# Altium integrated library TI Video Colour Decoder Circuit.IntLib: 24 symbols (part 2 of 3)
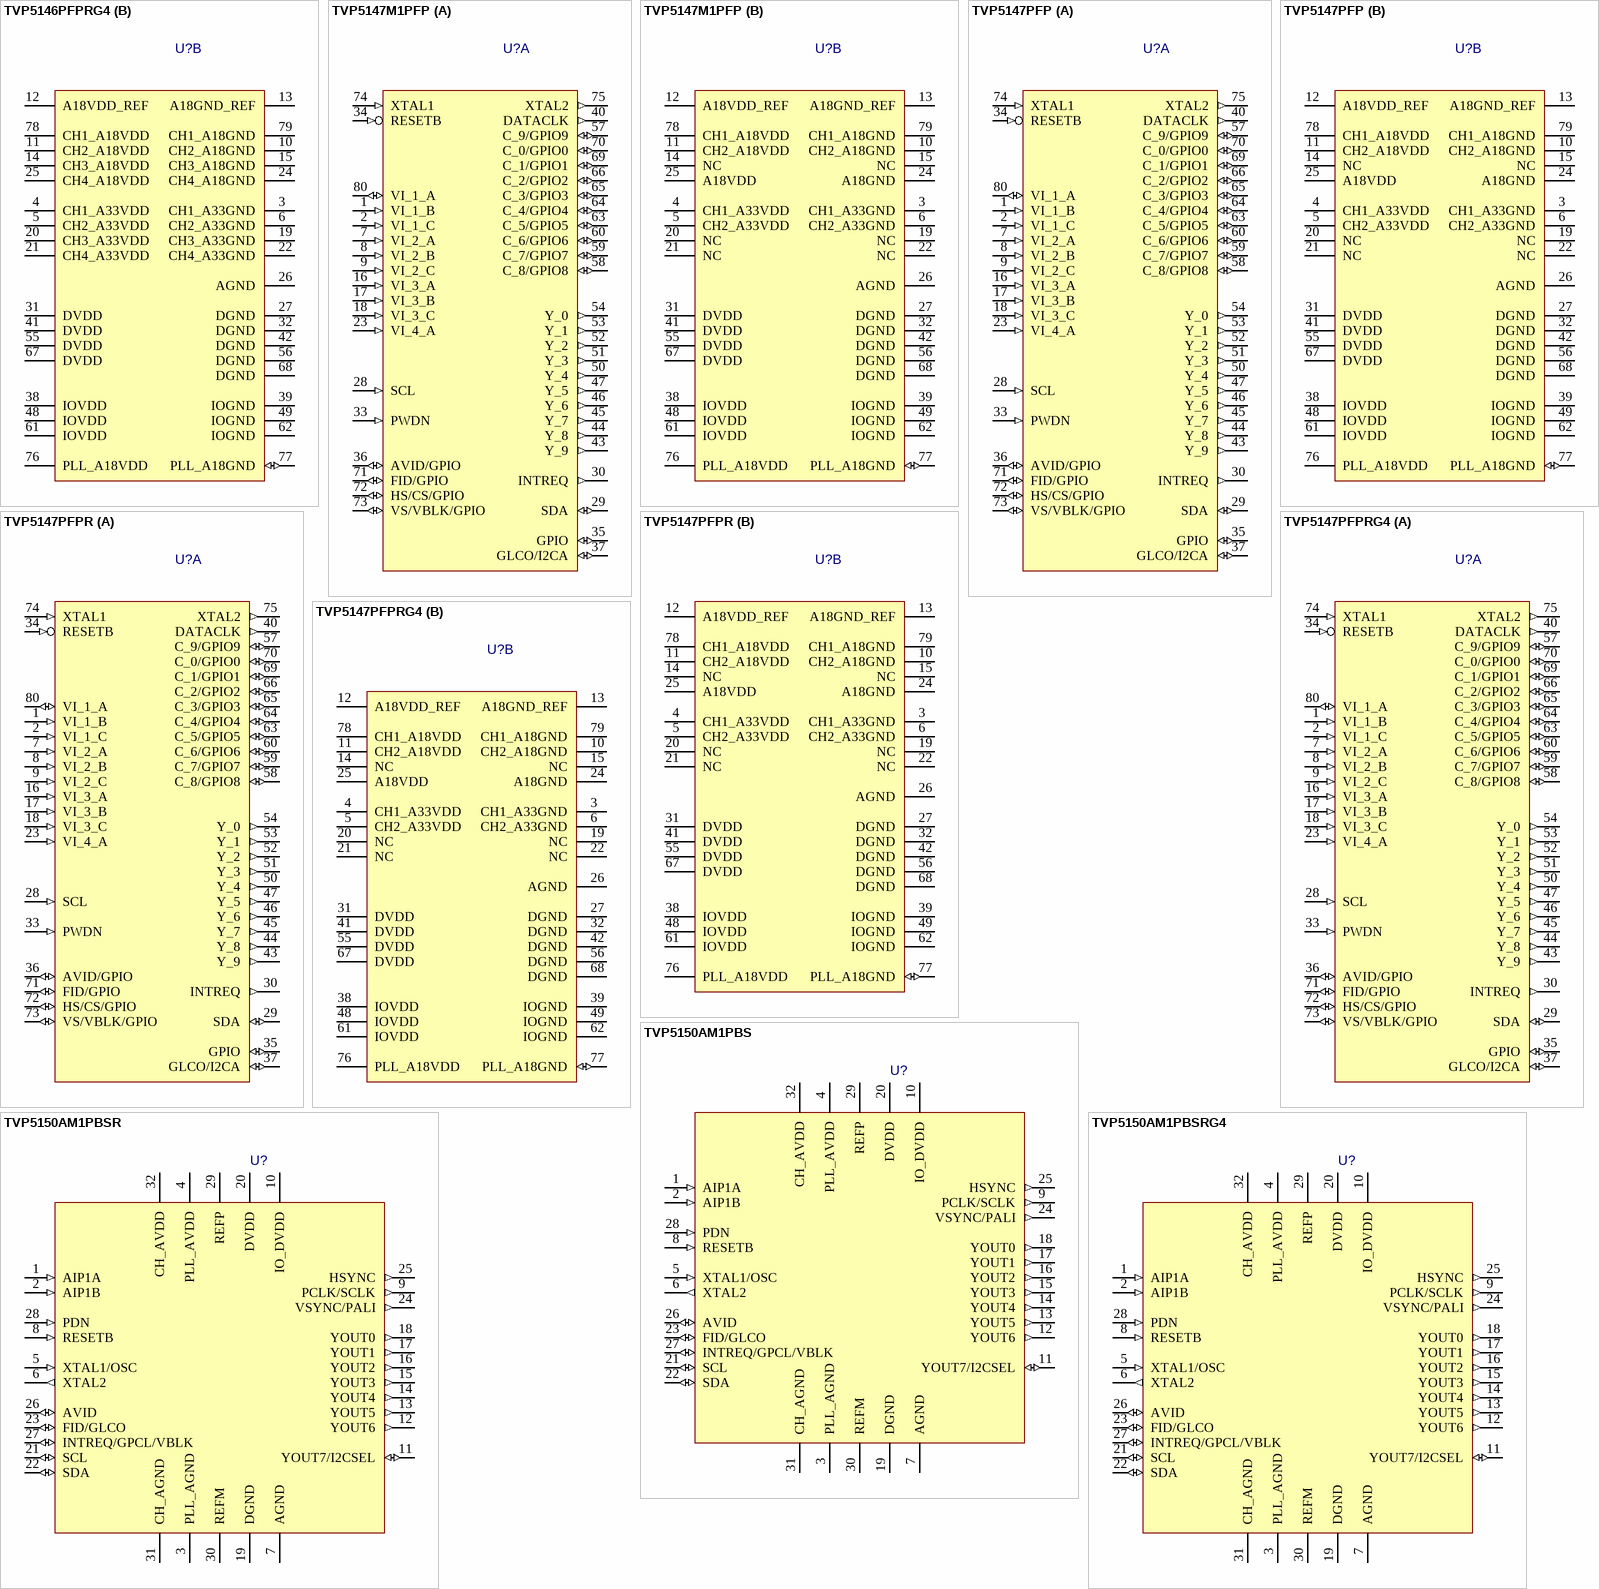
[diagram p4: symbols TVP5146PFPRG4 to TVP5150AM1PBSRG4]

## TVP5147PFPRG4
designator U?
NTSC/PAL/SECAM 2x10-Bit Digital Video Decoder with Macrovision Detection, YPbPr Inputs, 5-Line Comb Filter, 80-Pin HTQFP; Published: 6-Oct-2005; LatestRevisionDate: 13-Apr-2006; LatestRevisionNote: IPC-7351 Footprint Added.; DatasheetVersion: Jan-2005; PackageVersion: Aug-2003; PackageReference: PFP80; Publisher: Altium Limited; PackageDescription: 80-Pin Plastic Quad Flat Pack PowerPAD; ComponentLink1Description: Manufacturer Link; ComponentLink1URL: http://focus.ti.com/docs/prod/folders/print/tvp5147.html; ComponentLink2Description: Datasheet; ComponentLink2URL: http://focus.ti.com/lit/ds/symlink/tvp5147.pdf
footprint PFP80_N (Thin QFP, 80-Leads, Body 12x12mm, Pitch 0.5mm, IPC Medium Density)
footprint PFP80_L (Thin QFP, 80-Leads, Body 12x12mm, Pitch 0.5mm, IPC High Density)
footprint PFP80_M (Thin QFP, 80-Leads, Body 12x12mm, Pitch 0.5mm, IPC Low Density)
part A pins: 1 VI_1_B (in) "Analog video input for CVBS/Pb/C", 2 VI_1_C (in) "Analog video input for CVBS/Pb/C", 7 VI_2_A (in) "Analog video input for CVBS/Y", 8 VI_2_B (in) "Analog video input for CVBS/Y", 9 VI_2_C (in) "Analog video input for CVBS/Y", 16 VI_3_A (in) "Analog video input for CVBS/Pr/C", 17 VI_3_B (in) "Analog video input for CVBS/Pr/C", 18 VI_3_C (in) "Analog video input for CVBS/Pr/C", 23 VI_4_A (in) "Analog video input for CVBS/Y", 28 SCL (in) "I2C clock input.", 29 SDA (io) "I2C data bus", 30 INTREQ (out) "Interrupt request.", 33 PWDN (in) "Power-down input.", 34 RESETB (in) "Reset input, active low.", 35 GPIO (io) "Programmable general-purpose I/O.", 36 AVID/GPIO (io) "Active video indicator output. Programmable general-purpose I/O.", 37 GLCO/I2CA (io) "Genlock control output (GLCO). During reset, used to program I2C address LSB.", 40 DATACLK (out) "Line-locked data output clock", 43 Y_9 (out) "Digital video output of Y/YCbCr (MSB).", 44 Y_8 (out) "Digital video output of Y/YCbCr.", 45 Y_7 (out) "Digital video output of Y/YCbCr.", 46 Y_6 (out) "Digital video output of Y/YCbCr.", 47 Y_5 (out) "Digital video output of Y/YCbCr.", 50 Y_4 (out) "Digital video output of Y/YCbCr.", 51 Y_3 (out) "Digital video output of Y/YCbCr.", 52 Y_2 (out) "Digital video output of Y/YCbCr.", 53 Y_1 (out) "Digital video output of Y/YCbCr.", 54 Y_0 (out) "Digital video output of Y/YCbCr (LSB).", 57 C_9/GPIO9 (io) "Digital video output of CbCr (MSB). Programmable general-purpose I/O", 58 C_8/GPIO8 (io) "Digital video output of CbCr. Programmable general-purpose I/O", 59 C_7/GPIO7 (io) "Digital video output of CbCr. Programmable general-purpose I/O", 60 C_6/GPIO6 (io) "Digital video output of CbCr. Programmable general-purpose I/O", 63 C_5/GPIO5 (io) "Digital video output of CbCr. Programmable general-purpose I/O", 64 C_4/GPIO4 (io) "Digital video output of CbCr. Programmable general-purpose I/O", 65 C_3/GPIO3 (io) "Digital video output of CbCr. Programmable general-purpose I/O", 66 C_2/GPIO2 (io) "Digital video output of CbCr. Programmable general-purpose I/O", 69 C_1/GPIO1 (io) "Digital video output of CbCr. Programmable general-purpose I/O", 70 C_0/GPIO0 (io) "Digital video output of CbCr (LSB). Programmable general-purpose I/O", 71 FID/GPIO (io) "Odd/even field indicator output. Programmable general-purpose I/O.", 72 HS/CS/GPIO (io) "Horizontal sync output or digital composite sync output. Programmable general-purpose I/O.", 73 VS/VBLK/GPIO (io) "Vertical sync output (for modes with dedicated VSYNC) or VBLK output. Programmable general-purpose I/O.", 74 XTAL1 (in) "External clock reference input.", 75 XTAL2 (out) "External clock reference output.", 80 VI_1_A (io) "Analog video input for CVBS/Pb/C or analog video input"
part B pins: 3 CH1_A33GND (power) "Analog 3.3-V return", 4 CH1_A33VDD (power) "Analog power. Connect to 3.3 V.", 5 CH2_A33VDD (power) "Analog power. Connect to 3.3 V.", 6 CH2_A33GND (power) "Analog 3.3-V return", 10 CH2_A18GND (power) "Analog 1.8-V return", 11 CH2_A18VDD (power) "Analog power. Connect to 1.8 V.", 12 A18VDD_REF (power) "Analog power for reference 1.8 V.", 13 A18GND_REF (power) "Analog 1.8-V return.", 14 NC "Not connected", 15 NC "Not connected", 19 NC "Not connected", 20 NC "Not connected", 21 NC "Not connected", 22 NC "Not connected", 24 A18GND (power) "Analog 1.8-V return", 25 A18VDD (power) "Analog power. Connect to 1.8 V.", 26 AGND (power) "Analog ground. Connect to analog ground.", 27 DGND (power) "Digital return", 31 DVDD (power) "Digital power. Connect to 1.8 V.", 32 DGND (power) "Digital return", 38 IOVDD (power) "Digital power. Connect to 3.3 V or less for reduced noise.", 39 IOGND (power) "Digital power return", 41 DVDD (power) "Digital power. Connect to 1.8 V.", 42 DGND (power) "Digital return", 48 IOVDD (power) "Digital power. Connect to 3.3 V or less for reduced noise.", 49 IOGND (power) "Digital power return", 55 DVDD (power) "Digital power. Connect to 1.8 V.", 56 DGND (power) "Digital return", 61 IOVDD (power) "Digital power. Connect to 3.3 V or less for reduced noise.", 62 IOGND (power) "Digital power return", 67 DVDD (power) "Digital power. Connect to 1.8 V.", 68 DGND (power) "Digital return", 76 PLL_A18VDD (power) "Analog power. Connect to 1.8 V.", 77 PLL_A18GND (io) "Analog power return", 78 CH1_A18VDD (power) "Analog power. Connect to 1.8 V.", 79 CH1_A18GND (power) "Analog 1.8-V return"

## TVP5150AM1PBS
designator U?
Ultralow Power NTSC/PAL/SECAM 9-Bit Video Decoder with Robust Sync Detector, 32-Pin TQFP; Published: 6-Oct-2005; LatestRevisionDate: 13-Apr-2006; LatestRevisionNote: IPC-7351 Footprint Added.; DatasheetVersion: May-2004; PackageVersion: Nov-1995; PackageReference: PBS32; Publisher: Altium Limited; PackageDescription: 32-Pin Thin Plastic Quad Flat Pack 0.5 mm Pitch; Code_JEDEC: MS-026-AAA; ComponentLink1Description: Manufacturer Link; ComponentLink1URL: http://focus.ti.com/docs/prod/folders/print/tvp5150am1.html; ComponentLink2Description: Datasheet; ComponentLink2URL: http://focus.ti.com/lit/ds/symlink/tvp5150am1.pdf
footprint PBS32_N (Thin QFP, 32-Leads, Body 5x5mm, Pitch 0.5mm, IPC Medium Density)
footprint PBS32_L (Thin QFP, 32-Leads, Body 5x5mm, Pitch 0.5mm, IPC High Density)
footprint PBS32_M (Thin QFP, 32-Leads, Body 5x5mm, Pitch 0.5mm, IPC Low Density)
pins: 1 AIP1A (in) "Analog input", 2 AIP1B (in) "Analog input", 3 PLL_AGND (power) "PLL ground. Connect to analog ground", 4 PLL_AVDD (power) "PLL supply. Connect to 1.8-V analog supply", 5 XTAL1/OSC (in) "External clock reference. Connect to a TTL-compatible oscillator or to one terminal of a crystal oscillator", 6 XTAL2 (out) "Connect to other terminal of crystal oscillator or not connect at all.", 7 AGND "Substrate", 8 RESETB (in) "Active-low reset.", 9 PCLK/SCLK (out) "System clock at either 1x or 2x the frequency of the pixel clock.", 10 IO_DVDD (power) "Digital supply. Connect to 3.3 V", 11 YOUT7/I2CSEL (io) "(I2CSEL) Determines address for I2C.(YOUT7) MSB of Output decoded ITU-R BT656 output/YUV 422 output.", 12 YOUT6 (out) "Output Decoded ITU-R BT.656 Output/YCbCr 4:2:2 Output with Discrete Sync.", 13 YOUT5 (out) "Output Decoded ITU-R BT.656 Output/YCbCr 4:2:2 Output with Discrete Sync.", 14 YOUT4 (out) "Output Decoded ITU-R BT.656 Output/YCbCr 4:2:2 Output with Discrete Sync.", 15 YOUT3 (out) "Output Decoded ITU-R BT.656 Output/YCbCr 4:2:2 Output with Discrete Sync.", 16 YOUT2 (out) "Output Decoded ITU-R BT.656 Output/YCbCr 4:2:2 Output with Discrete Sync.", 17 YOUT1 (out) "Output Decoded ITU-R BT.656 Output/YCbCr 4:2:2 Output with Discrete Sync.", 18 YOUT0 (out) "Output Decoded ITU-R BT.656 Output/YCbCr 4:2:2 Output with Discrete Sync.", 19 DGND (power) "Digital ground", 20 DVDD (power) "Digital supply. Connect to 1.8 V", 21 SCL (io) "I2C serial clock", 22 SDA (io) "I2C serial data", 23 FID/GLCO (io) "(FID) Odd/even field indicator or vertical lock indicator. (GLCO) Serial output carries color PLL information.", 24 VSYNC/PALI (out) "(VSYNC) vertical synchronization. (PALI) PAL line indicator or horizontal lock indicator.", 25 HSYNC (out) "Horizontal synchronization", 26 AVID (io) "Active video indicator", 27 INTREQ/GPCL/VBLK (io) "(INTREQ) interrupt request. (GPCL) General-purpose control logic. (VBLK) Vertical blank output.", 28 PDN (in) "Power-down pin", 29 REFP (power) "A/D reference supply.", 30 REFM (power) "A/D reference ground. Connect to analog ground through 1-µF capacitor.", 31 CH_AGND (power) "Analog ground", 32 CH_AVDD (power) "Analog supply. Connect to 1.8-V analog supply"

## TVP5150AM1PBSR
designator U?
Ultralow Power NTSC/PAL/SECAM 9-Bit Video Decoder with Robust Sync Detector, 32-Pin TQFP; Published: 6-Oct-2005; LatestRevisionDate: 13-Apr-2006; LatestRevisionNote: IPC-7351 Footprint Added.; DatasheetVersion: May-2004; PackageVersion: Nov-1995; PackageReference: PBS32; Publisher: Altium Limited; PackageDescription: 32-Pin Thin Plastic Quad Flat Pack 0.5 mm Pitch; Code_JEDEC: MS-026-AAA; ComponentLink1Description: Manufacturer Link; ComponentLink1URL: http://focus.ti.com/docs/prod/folders/print/tvp5150am1.html; ComponentLink2Description: Datasheet; ComponentLink2URL: http://focus.ti.com/lit/ds/symlink/tvp5150am1.pdf
footprint PBS32_N (Thin QFP, 32-Leads, Body 5x5mm, Pitch 0.5mm, IPC Medium Density)
footprint PBS32_L (Thin QFP, 32-Leads, Body 5x5mm, Pitch 0.5mm, IPC High Density)
footprint PBS32_M (Thin QFP, 32-Leads, Body 5x5mm, Pitch 0.5mm, IPC Low Density)
pins: 1 AIP1A (in) "Analog input", 2 AIP1B (in) "Analog input", 3 PLL_AGND (power) "PLL ground. Connect to analog ground", 4 PLL_AVDD (power) "PLL supply. Connect to 1.8-V analog supply", 5 XTAL1/OSC (in) "External clock reference. Connect to a TTL-compatible oscillator or to one terminal of a crystal oscillator", 6 XTAL2 (out) "Connect to other terminal of crystal oscillator or not connect at all.", 7 AGND "Substrate", 8 RESETB (in) "Active-low reset.", 9 PCLK/SCLK (out) "System clock at either 1x or 2x the frequency of the pixel clock.", 10 IO_DVDD (power) "Digital supply. Connect to 3.3 V", 11 YOUT7/I2CSEL (io) "(I2CSEL) Determines address for I2C.(YOUT7) MSB of Output decoded ITU-R BT656 output/YUV 422 output.", 12 YOUT6 (out) "Output Decoded ITU-R BT.656 Output/YCbCr 4:2:2 Output with Discrete Sync.", 13 YOUT5 (out) "Output Decoded ITU-R BT.656 Output/YCbCr 4:2:2 Output with Discrete Sync.", 14 YOUT4 (out) "Output Decoded ITU-R BT.656 Output/YCbCr 4:2:2 Output with Discrete Sync.", 15 YOUT3 (out) "Output Decoded ITU-R BT.656 Output/YCbCr 4:2:2 Output with Discrete Sync.", 16 YOUT2 (out) "Output Decoded ITU-R BT.656 Output/YCbCr 4:2:2 Output with Discrete Sync.", 17 YOUT1 (out) "Output Decoded ITU-R BT.656 Output/YCbCr 4:2:2 Output with Discrete Sync.", 18 YOUT0 (out) "Output Decoded ITU-R BT.656 Output/YCbCr 4:2:2 Output with Discrete Sync.", 19 DGND (power) "Digital ground", 20 DVDD (power) "Digital supply. Connect to 1.8 V", 21 SCL (io) "I2C serial clock", 22 SDA (io) "I2C serial data", 23 FID/GLCO (io) "(FID) Odd/even field indicator or vertical lock indicator. (GLCO) Serial output carries color PLL information.", 24 VSYNC/PALI (out) "(VSYNC) vertical synchronization. (PALI) PAL line indicator or horizontal lock indicator.", 25 HSYNC (out) "Horizontal synchronization", 26 AVID (io) "Active video indicator", 27 INTREQ/GPCL/VBLK (io) "(INTREQ) interrupt request. (GPCL) General-purpose control logic. (VBLK) Vertical blank output.", 28 PDN (in) "Power-down pin", 29 REFP (power) "A/D reference supply.", 30 REFM (power) "A/D reference ground. Connect to analog ground through 1-µF capacitor.", 31 CH_AGND (power) "Analog ground", 32 CH_AVDD (power) "Analog supply. Connect to 1.8-V analog supply"

## TVP5150AM1PBSRG4
designator U?
Ultralow Power NTSC/PAL/SECAM 9-Bit Video Decoder with Robust Sync Detector, 32-Pin TQFP; Published: 6-Oct-2005; LatestRevisionDate: 13-Apr-2006; LatestRevisionNote: IPC-7351 Footprint Added.; DatasheetVersion: May-2004; PackageVersion: Nov-1995; PackageReference: PBS32; Publisher: Altium Limited; PackageDescription: 32-Pin Thin Plastic Quad Flat Pack 0.5 mm Pitch; Code_JEDEC: MS-026-AAA; ComponentLink1Description: Manufacturer Link; ComponentLink1URL: http://focus.ti.com/docs/prod/folders/print/tvp5150am1.html; ComponentLink2Description: Datasheet; ComponentLink2URL: http://focus.ti.com/lit/ds/symlink/tvp5150am1.pdf
footprint PBS32_N (Thin QFP, 32-Leads, Body 5x5mm, Pitch 0.5mm, IPC Medium Density)
footprint PBS32_L (Thin QFP, 32-Leads, Body 5x5mm, Pitch 0.5mm, IPC High Density)
footprint PBS32_M (Thin QFP, 32-Leads, Body 5x5mm, Pitch 0.5mm, IPC Low Density)
pins: 1 AIP1A (in) "Analog input", 2 AIP1B (in) "Analog input", 3 PLL_AGND (power) "PLL ground. Connect to analog ground", 4 PLL_AVDD (power) "PLL supply. Connect to 1.8-V analog supply", 5 XTAL1/OSC (in) "External clock reference. Connect to a TTL-compatible oscillator or to one terminal of a crystal oscillator", 6 XTAL2 (out) "Connect to other terminal of crystal oscillator or not connect at all.", 7 AGND "Substrate", 8 RESETB (in) "Active-low reset.", 9 PCLK/SCLK (out) "System clock at either 1x or 2x the frequency of the pixel clock.", 10 IO_DVDD (power) "Digital supply. Connect to 3.3 V", 11 YOUT7/I2CSEL (io) "(I2CSEL) Determines address for I2C.(YOUT7) MSB of Output decoded ITU-R BT656 output/YUV 422 output.", 12 YOUT6 (out) "Output Decoded ITU-R BT.656 Output/YCbCr 4:2:2 Output with Discrete Sync.", 13 YOUT5 (out) "Output Decoded ITU-R BT.656 Output/YCbCr 4:2:2 Output with Discrete Sync.", 14 YOUT4 (out) "Output Decoded ITU-R BT.656 Output/YCbCr 4:2:2 Output with Discrete Sync.", 15 YOUT3 (out) "Output Decoded ITU-R BT.656 Output/YCbCr 4:2:2 Output with Discrete Sync.", 16 YOUT2 (out) "Output Decoded ITU-R BT.656 Output/YCbCr 4:2:2 Output with Discrete Sync.", 17 YOUT1 (out) "Output Decoded ITU-R BT.656 Output/YCbCr 4:2:2 Output with Discrete Sync.", 18 YOUT0 (out) "Output Decoded ITU-R BT.656 Output/YCbCr 4:2:2 Output with Discrete Sync.", 19 DGND (power) "Digital ground", 20 DVDD (power) "Digital supply. Connect to 1.8 V", 21 SCL (io) "I2C serial clock", 22 SDA (io) "I2C serial data", 23 FID/GLCO (io) "(FID) Odd/even field indicator or vertical lock indicator. (GLCO) Serial output carries color PLL information.", 24 VSYNC/PALI (out) "(VSYNC) vertical synchronization. (PALI) PAL line indicator or horizontal lock indicator.", 25 HSYNC (out) "Horizontal synchronization", 26 AVID (io) "Active video indicator", 27 INTREQ/GPCL/VBLK (io) "(INTREQ) interrupt request. (GPCL) General-purpose control logic. (VBLK) Vertical blank output.", 28 PDN (in) "Power-down pin", 29 REFP (power) "A/D reference supply.", 30 REFM (power) "A/D reference ground. Connect to analog ground through 1-µF capacitor.", 31 CH_AGND (power) "Analog ground", 32 CH_AVDD (power) "Analog supply. Connect to 1.8-V analog supply"

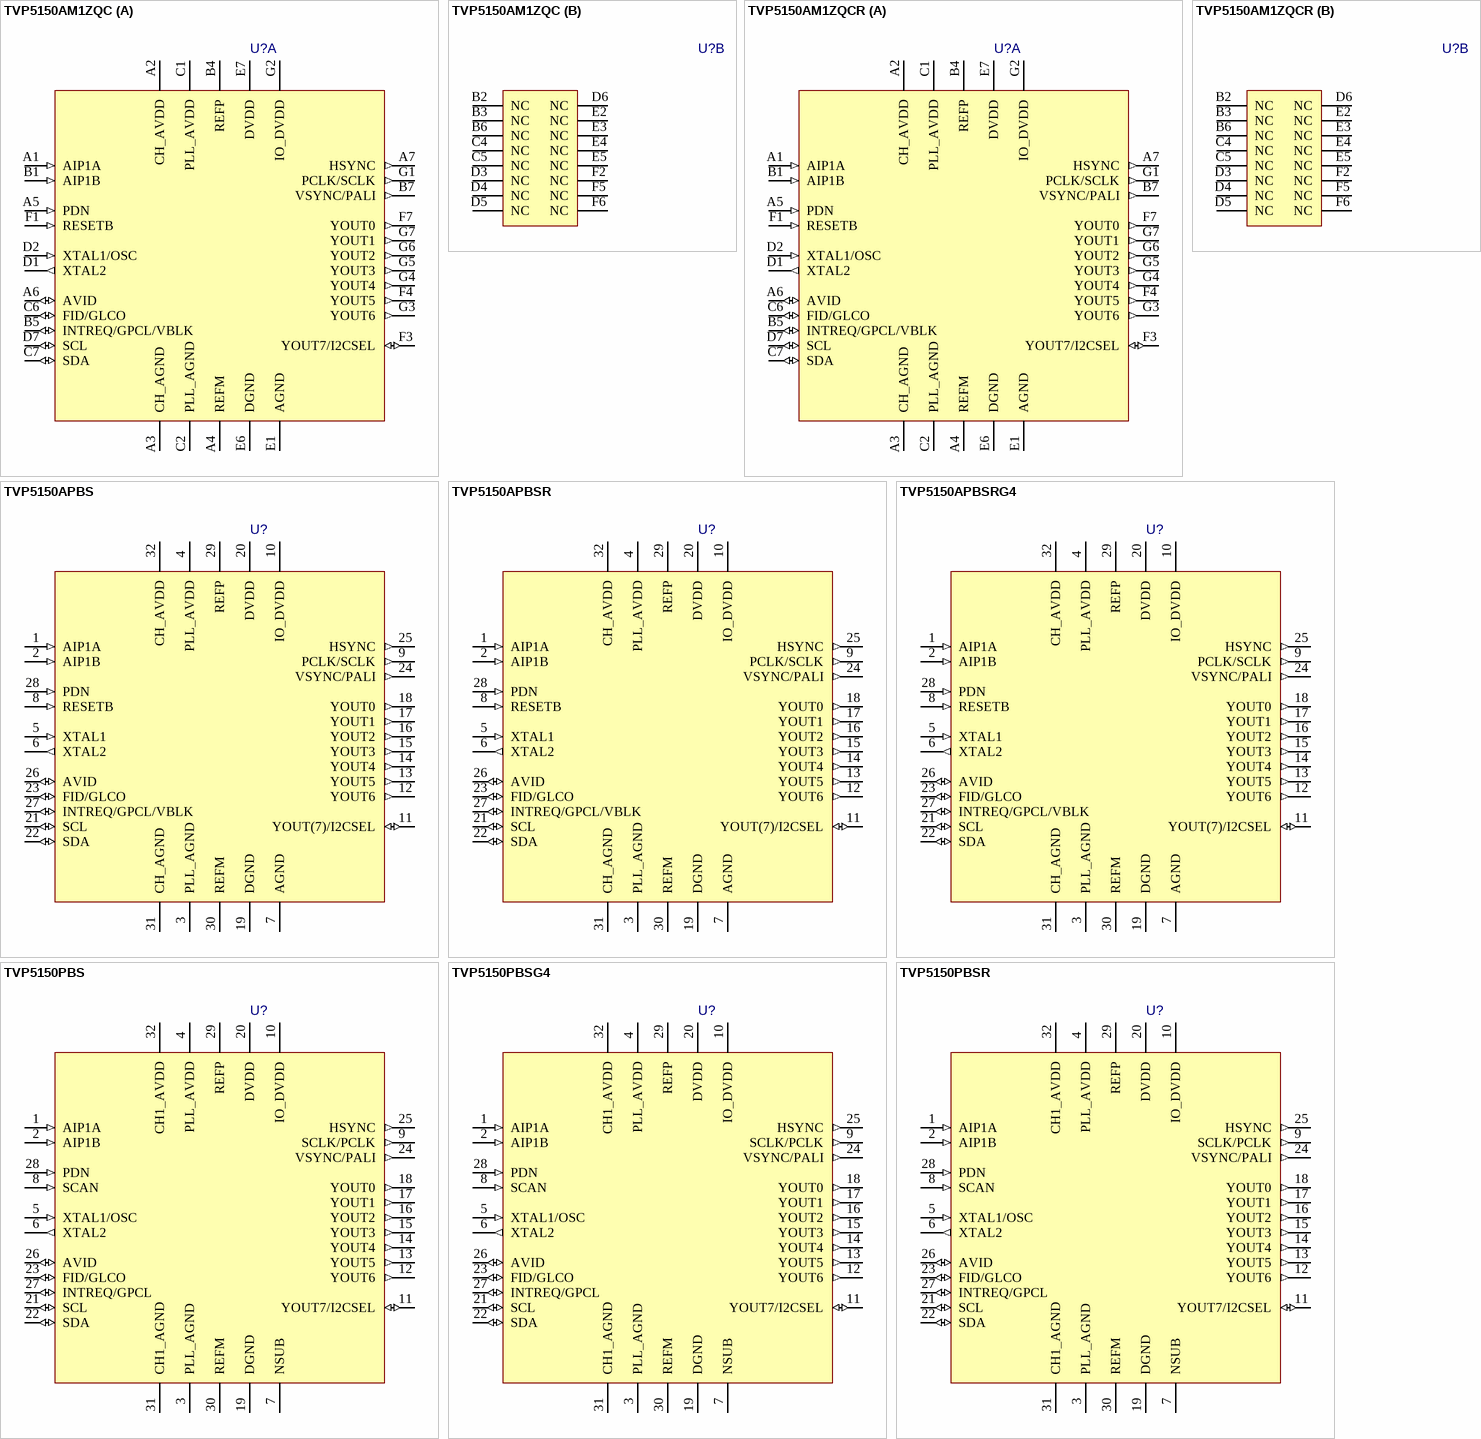
[diagram p2: symbols TVP5150AM1ZQC to TVP5150PBSR]

## TVP5150AM1ZQC
designator U?
Ultralow Power NTSC/PAL/SECAM 9-Bit Video Decoder w/Robust Sync Detector, 48-Pin MicroStar Junior BGA; Published: 6-Oct-2005; LatestRevisionDate: 13-Apr-2006; LatestRevisionNote: IPC-7351 Footprint Added.; DatasheetVersion: May-2004; PackageVersion: Oct-2002; PackageReference: ZQC48; Publisher: Altium Limited; PackageDescription: 48-Ball Plastic Ball Grid Array 0.5 mm Pitch; Code_JEDEC: MO-225; ComponentLink1Description: Manufacturer Link; ComponentLink1URL: http://focus.ti.com/docs/prod/folders/print/tvp5150am1.html; ComponentLink2Description: Datasheet; ComponentLink2URL: http://focus.ti.com/lit/ds/symlink/tvp5150am1.pdf
footprint ZQC48 (BGA, 48-Leads, Body 4x4mm, Pitch 0.5mm)
part A pins: A1 AIP1A (in) "Analog input", A2 CH_AVDD (power) "Analog supply. Connect to 1.8-V analog supply", A3 CH_AGND (power) "Analog ground", A4 REFM (power) "A/D reference ground. Connect to analog ground through 1-µF capacitor.", A5 PDN (in) "Power-down pin", A6 AVID (io) "Active video indicator", A7 HSYNC (out) "Horizontal synchronization", B1 AIP1B (in) "Analog input", B4 REFP (power) "A/D reference supply.", B5 INTREQ/GPCL/VBLK (io) "(INTREQ) interrupt request. (GPCL) General-purpose control logic. (VBLK) Vertical blank output.", B7 VSYNC/PALI (out) "(VSYNC) vertical synchronization. (PALI) PAL line indicator or horizontal lock indicator.", C1 PLL_AVDD (power) "PLL supply. Connect to 1.8-V analog supply", C2 PLL_AGND (power) "PLL ground. Connect to analog ground", C6 FID/GLCO (io) "(FID) Odd/even field indicator or vertical lock indicator. (GLCO) Serial output carries color PLL information.", C7 SDA (io) "I2C serial data", D1 XTAL2 (out) "Connect to other terminal of crystal oscillator or not connect at all.", D2 XTAL1/OSC (in) "External clock reference. Connect to a TTL-compatible oscillator or to one terminal of a crystal oscillator", D7 SCL (io) "I2C serial clock", E1 AGND "Substrate", E6 DGND (power) "Digital ground", E7 DVDD (power) "Digital supply. Connect to 1.8 V", F1 RESETB (in) "Active-low reset.", F3 YOUT7/I2CSEL (io) "(I2CSEL) Determines address for I2C.(YOUT7) MSB of Output decoded ITU-R BT656 output/YUV 422 output.", F4 YOUT5 (out) "Output Decoded ITU-R BT.656 Output/YCbCr 4:2:2 Output with Discrete Sync.", F7 YOUT0 (out) "Output Decoded ITU-R BT.656 Output/YCbCr 4:2:2 Output with Discrete Sync.", G1 PCLK/SCLK (out) "System clock at either 1x or 2x the frequency of the pixel clock.", G2 IO_DVDD (power) "Digital supply. Connect to 3.3 V", G3 YOUT6 (out) "Output Decoded ITU-R BT.656 Output/YCbCr 4:2:2 Output with Discrete Sync.", G4 YOUT4 (out) "Output Decoded ITU-R BT.656 Output/YCbCr 4:2:2 Output with Discrete Sync.", G5 YOUT3 (out) "Output Decoded ITU-R BT.656 Output/YCbCr 4:2:2 Output with Discrete Sync.", G6 YOUT2 (out) "Output Decoded ITU-R BT.656 Output/YCbCr 4:2:2 Output with Discrete Sync.", G7 YOUT1 (out) "Output Decoded ITU-R BT.656 Output/YCbCr 4:2:2 Output with Discrete Sync."
part B pins: B2 NC "No Connect", B3 NC "No Connect", B6 NC "No Connect", C4 NC "No Connect", C5 NC "No Connect", D3 NC "No Connect", D4 NC "No Connect", D5 NC "No Connect", D6 NC "No Connect", E2 NC "No Connect", E3 NC "No Connect", E4 NC "No Connect", E5 NC "No Connect", F2 NC "No Connect", F5 NC "No Connect", F6 NC "No Connect"

## TVP5150AM1ZQCR
designator U?
Ultralow Power NTSC/PAL/SECAM 9-Bit Video Decoder w/Robust Sync Detector, 48-Pin MicroStar Junior BGA; Published: 6-Oct-2005; LatestRevisionDate: 13-Apr-2006; LatestRevisionNote: IPC-7351 Footprint Added.; DatasheetVersion: May-2004; PackageVersion: Oct-2002; PackageReference: ZQC48; Publisher: Altium Limited; PackageDescription: 48-Ball Plastic Ball Grid Array 0.5 mm Pitch; Code_JEDEC: MO-225; ComponentLink1Description: Manufacturer Link; ComponentLink1URL: http://focus.ti.com/docs/prod/folders/print/tvp5150am1.html; ComponentLink2Description: Datasheet; ComponentLink2URL: http://focus.ti.com/lit/ds/symlink/tvp5150am1.pdf
footprint ZQC48 (BGA, 48-Leads, Body 4x4mm, Pitch 0.5mm)
part A pins: A1 AIP1A (in) "Analog input", A2 CH_AVDD (power) "Analog supply. Connect to 1.8-V analog supply", A3 CH_AGND (power) "Analog ground", A4 REFM (power) "A/D reference ground. Connect to analog ground through 1-µF capacitor.", A5 PDN (in) "Power-down pin", A6 AVID (io) "Active video indicator", A7 HSYNC (out) "Horizontal synchronization", B1 AIP1B (in) "Analog input", B4 REFP (power) "A/D reference supply.", B5 INTREQ/GPCL/VBLK (io) "(INTREQ) interrupt request. (GPCL) General-purpose control logic. (VBLK) Vertical blank output.", B7 VSYNC/PALI (out) "(VSYNC) vertical synchronization. (PALI) PAL line indicator or horizontal lock indicator.", C1 PLL_AVDD (power) "PLL supply. Connect to 1.8-V analog supply", C2 PLL_AGND (power) "PLL ground. Connect to analog ground", C6 FID/GLCO (io) "(FID) Odd/even field indicator or vertical lock indicator. (GLCO) Serial output carries color PLL information.", C7 SDA (io) "I2C serial data", D1 XTAL2 (out) "Connect to other terminal of crystal oscillator or not connect at all.", D2 XTAL1/OSC (in) "External clock reference. Connect to a TTL-compatible oscillator or to one terminal of a crystal oscillator", D7 SCL (io) "I2C serial clock", E1 AGND "Substrate", E6 DGND (power) "Digital ground", E7 DVDD (power) "Digital supply. Connect to 1.8 V", F1 RESETB (in) "Active-low reset.", F3 YOUT7/I2CSEL (io) "(I2CSEL) Determines address for I2C.(YOUT7) MSB of Output decoded ITU-R BT656 output/YUV 422 output.", F4 YOUT5 (out) "Output Decoded ITU-R BT.656 Output/YCbCr 4:2:2 Output with Discrete Sync.", F7 YOUT0 (out) "Output Decoded ITU-R BT.656 Output/YCbCr 4:2:2 Output with Discrete Sync.", G1 PCLK/SCLK (out) "System clock at either 1x or 2x the frequency of the pixel clock.", G2 IO_DVDD (power) "Digital supply. Connect to 3.3 V", G3 YOUT6 (out) "Output Decoded ITU-R BT.656 Output/YCbCr 4:2:2 Output with Discrete Sync.", G4 YOUT4 (out) "Output Decoded ITU-R BT.656 Output/YCbCr 4:2:2 Output with Discrete Sync.", G5 YOUT3 (out) "Output Decoded ITU-R BT.656 Output/YCbCr 4:2:2 Output with Discrete Sync.", G6 YOUT2 (out) "Output Decoded ITU-R BT.656 Output/YCbCr 4:2:2 Output with Discrete Sync.", G7 YOUT1 (out) "Output Decoded ITU-R BT.656 Output/YCbCr 4:2:2 Output with Discrete Sync."
part B pins: B2 NC "No Connect", B3 NC "No Connect", B6 NC "No Connect", C4 NC "No Connect", C5 NC "No Connect", D3 NC "No Connect", D4 NC "No Connect", D5 NC "No Connect", D6 NC "No Connect", E2 NC "No Connect", E3 NC "No Connect", E4 NC "No Connect", E5 NC "No Connect", F2 NC "No Connect", F5 NC "No Connect", F6 NC "No Connect"

## TVP5150APBS
designator U?
Ultralow Power NTSC/PAL/SECAM 9-Bit Video Decoder with Robust Sync Detector, 32-Pin TQFP; Published: 6-Oct-2005; LatestRevisionDate: 13-Apr-2006; LatestRevisionNote: IPC-7351 Footprint Added.; DatasheetVersion: Sep-2003; PackageVersion: Nov-1995; PackageReference: PBS32; Publisher: Altium Limited; PackageDescription: 32-Pin Thin Plastic Quad Flat Pack 0.5 mm Pitch; Code_JEDEC: MS-026-AAA; ComponentLink1Description: Manufacturer Link; ComponentLink1URL: http://focus.ti.com/docs/prod/folders/print/tvp5150a.html; ComponentLink2Description: Datasheet; ComponentLink2URL: http://focus.ti.com/lit/ds/symlink/tvp5150a.pdf
footprint PBS32_N (Thin QFP, 32-Leads, Body 5x5mm, Pitch 0.5mm, IPC Medium Density)
footprint PBS32_L (Thin QFP, 32-Leads, Body 5x5mm, Pitch 0.5mm, IPC High Density)
footprint PBS32_M (Thin QFP, 32-Leads, Body 5x5mm, Pitch 0.5mm, IPC Low Density)
pins: 1 AIP1A (in) "Analog input", 2 AIP1B (in) "Analog input", 3 PLL_AGND (power) "PLL ground. Connect to analog ground", 4 PLL_AVDD (power) "PLL supply. Connect to 1.8-V analog supply", 5 XTAL1 (in) "External clock reference. Connect to a TTL-compatible oscillator or to one terminal of a crystal oscillator", 6 XTAL2 (out) "Connect to other terminal of crystal oscillator or not connect at all.", 7 AGND "Substrate", 8 RESETB (in) "Active-low reset.", 9 PCLK/SCLK (out) "System clock at either 1x or 2x the frequency of the pixel clock.", 10 IO_DVDD (power) "Digital supply. Connect to 3.3 V", 11 YOUT(7)/I2CSEL (io) "(I2CSEL) Determines address for I2C.(YOUT7) MSB of Output decoded ITU-R BT656 output/YUV 422 output.", 12 YOUT6 (out) "Output Decoded ITU-R BT.656 Output/YCbCr 4:2:2 Output with Discrete Sync.", 13 YOUT5 (out) "Output Decoded ITU-R BT.656 Output/YCbCr 4:2:2 Output with Discrete Sync.", 14 YOUT4 (out) "Output Decoded ITU-R BT.656 Output/YCbCr 4:2:2 Output with Discrete Sync.", 15 YOUT3 (out) "Output Decoded ITU-R BT.656 Output/YCbCr 4:2:2 Output with Discrete Sync.", 16 YOUT2 (out) "Output Decoded ITU-R BT.656 Output/YCbCr 4:2:2 Output with Discrete Sync.", 17 YOUT1 (out) "Output Decoded ITU-R BT.656 Output/YCbCr 4:2:2 Output with Discrete Sync.", 18 YOUT0 (out) "Output Decoded ITU-R BT.656 Output/YCbCr 4:2:2 Output with Discrete Sync.", 19 DGND (power) "Digital ground", 20 DVDD (power) "Digital supply. Connect to 1.8 V", 21 SCL (io) "I2C serial clock", 22 SDA (io) "I2C serial data", 23 FID/GLCO (io) "(FID) Odd/even field indicator or vertical lock indicator. (GLCO) Serial output carries color PLL information.", 24 VSYNC/PALI (out) "(VSYNC) vertical synchronization. (PALI) PAL line indicator or horizontal lock indicator.", 25 HSYNC (out) "Horizontal synchronization", 26 AVID (io) "Active video indicator", 27 INTREQ/GPCL/VBLK (io) "(INTREQ) interrupt request. (GPCL) General-purpose control logic. (VBLK) Vertical blank output.", 28 PDN (in) "Power-down pin", 29 REFP (power) "A/D reference supply.", 30 REFM (power) "A/D reference ground. Connect to analog ground through 1-µF capacitor.", 31 CH_AGND (power) "Analog ground", 32 CH_AVDD (power) "Analog supply. Connect to 1.8-V analog supply"

## TVP5150APBSR
designator U?
Ultralow Power NTSC/PAL/SECAM 9-Bit Video Decoder with Robust Sync Detector, 32-Pin TQFP; Published: 6-Oct-2005; LatestRevisionDate: 13-Apr-2006; LatestRevisionNote: IPC-7351 Footprint Added.; DatasheetVersion: Sep-2003; PackageVersion: Nov-1995; PackageReference: PBS32; Publisher: Altium Limited; PackageDescription: 32-Pin Thin Plastic Quad Flat Pack 0.5 mm Pitch; Code_JEDEC: MS-026-AAA; ComponentLink1Description: Manufacturer Link; ComponentLink1URL: http://focus.ti.com/docs/prod/folders/print/tvp5150a.html; ComponentLink2Description: Datasheet; ComponentLink2URL: http://focus.ti.com/lit/ds/symlink/tvp5150a.pdf
footprint PBS32_N (Thin QFP, 32-Leads, Body 5x5mm, Pitch 0.5mm, IPC Medium Density)
footprint PBS32_L (Thin QFP, 32-Leads, Body 5x5mm, Pitch 0.5mm, IPC High Density)
footprint PBS32_M (Thin QFP, 32-Leads, Body 5x5mm, Pitch 0.5mm, IPC Low Density)
pins: 1 AIP1A (in) "Analog input", 2 AIP1B (in) "Analog input", 3 PLL_AGND (power) "PLL ground. Connect to analog ground", 4 PLL_AVDD (power) "PLL supply. Connect to 1.8-V analog supply", 5 XTAL1 (in) "External clock reference. Connect to a TTL-compatible oscillator or to one terminal of a crystal oscillator", 6 XTAL2 (out) "Connect to other terminal of crystal oscillator or not connect at all.", 7 AGND "Substrate", 8 RESETB (in) "Active-low reset.", 9 PCLK/SCLK (out) "System clock at either 1x or 2x the frequency of the pixel clock.", 10 IO_DVDD (power) "Digital supply. Connect to 3.3 V", 11 YOUT(7)/I2CSEL (io) "(I2CSEL) Determines address for I2C.(YOUT7) MSB of Output decoded ITU-R BT656 output/YUV 422 output.", 12 YOUT6 (out) "Output Decoded ITU-R BT.656 Output/YCbCr 4:2:2 Output with Discrete Sync.", 13 YOUT5 (out) "Output Decoded ITU-R BT.656 Output/YCbCr 4:2:2 Output with Discrete Sync.", 14 YOUT4 (out) "Output Decoded ITU-R BT.656 Output/YCbCr 4:2:2 Output with Discrete Sync.", 15 YOUT3 (out) "Output Decoded ITU-R BT.656 Output/YCbCr 4:2:2 Output with Discrete Sync.", 16 YOUT2 (out) "Output Decoded ITU-R BT.656 Output/YCbCr 4:2:2 Output with Discrete Sync.", 17 YOUT1 (out) "Output Decoded ITU-R BT.656 Output/YCbCr 4:2:2 Output with Discrete Sync.", 18 YOUT0 (out) "Output Decoded ITU-R BT.656 Output/YCbCr 4:2:2 Output with Discrete Sync.", 19 DGND (power) "Digital ground", 20 DVDD (power) "Digital supply. Connect to 1.8 V", 21 SCL (io) "I2C serial clock", 22 SDA (io) "I2C serial data", 23 FID/GLCO (io) "(FID) Odd/even field indicator or vertical lock indicator. (GLCO) Serial output carries color PLL information.", 24 VSYNC/PALI (out) "(VSYNC) vertical synchronization. (PALI) PAL line indicator or horizontal lock indicator.", 25 HSYNC (out) "Horizontal synchronization", 26 AVID (io) "Active video indicator", 27 INTREQ/GPCL/VBLK (io) "(INTREQ) interrupt request. (GPCL) General-purpose control logic. (VBLK) Vertical blank output.", 28 PDN (in) "Power-down pin", 29 REFP (power) "A/D reference supply.", 30 REFM (power) "A/D reference ground. Connect to analog ground through 1-µF capacitor.", 31 CH_AGND (power) "Analog ground", 32 CH_AVDD (power) "Analog supply. Connect to 1.8-V analog supply"

## TVP5150APBSRG4
designator U?
Ultralow Power NTSC/PAL/SECAM 9-Bit Video Decoder with Robust Sync Detector, 32-Pin TQFP; Published: 6-Oct-2005; LatestRevisionDate: 13-Apr-2006; LatestRevisionNote: IPC-7351 Footprint Added.; DatasheetVersion: Sep-2003; PackageVersion: Nov-1995; PackageReference: PBS32; Publisher: Altium Limited; PackageDescription: 32-Pin Thin Plastic Quad Flat Pack 0.5 mm Pitch; Code_JEDEC: MS-026-AAA; ComponentLink1Description: Manufacturer Link; ComponentLink1URL: http://focus.ti.com/docs/prod/folders/print/tvp5150a.html; ComponentLink2Description: Datasheet; ComponentLink2URL: http://focus.ti.com/lit/ds/symlink/tvp5150a.pdf
footprint PBS32_N (Thin QFP, 32-Leads, Body 5x5mm, Pitch 0.5mm, IPC Medium Density)
footprint PBS32_L (Thin QFP, 32-Leads, Body 5x5mm, Pitch 0.5mm, IPC High Density)
footprint PBS32_M (Thin QFP, 32-Leads, Body 5x5mm, Pitch 0.5mm, IPC Low Density)
pins: 1 AIP1A (in) "Analog input", 2 AIP1B (in) "Analog input", 3 PLL_AGND (power) "PLL ground. Connect to analog ground", 4 PLL_AVDD (power) "PLL supply. Connect to 1.8-V analog supply", 5 XTAL1 (in) "External clock reference. Connect to a TTL-compatible oscillator or to one terminal of a crystal oscillator", 6 XTAL2 (out) "Connect to other terminal of crystal oscillator or not connect at all.", 7 AGND "Substrate", 8 RESETB (in) "Active-low reset.", 9 PCLK/SCLK (out) "System clock at either 1x or 2x the frequency of the pixel clock.", 10 IO_DVDD (power) "Digital supply. Connect to 3.3 V", 11 YOUT(7)/I2CSEL (io) "(I2CSEL) Determines address for I2C.(YOUT7) MSB of Output decoded ITU-R BT656 output/YUV 422 output.", 12 YOUT6 (out) "Output Decoded ITU-R BT.656 Output/YCbCr 4:2:2 Output with Discrete Sync.", 13 YOUT5 (out) "Output Decoded ITU-R BT.656 Output/YCbCr 4:2:2 Output with Discrete Sync.", 14 YOUT4 (out) "Output Decoded ITU-R BT.656 Output/YCbCr 4:2:2 Output with Discrete Sync.", 15 YOUT3 (out) "Output Decoded ITU-R BT.656 Output/YCbCr 4:2:2 Output with Discrete Sync.", 16 YOUT2 (out) "Output Decoded ITU-R BT.656 Output/YCbCr 4:2:2 Output with Discrete Sync.", 17 YOUT1 (out) "Output Decoded ITU-R BT.656 Output/YCbCr 4:2:2 Output with Discrete Sync.", 18 YOUT0 (out) "Output Decoded ITU-R BT.656 Output/YCbCr 4:2:2 Output with Discrete Sync.", 19 DGND (power) "Digital ground", 20 DVDD (power) "Digital supply. Connect to 1.8 V", 21 SCL (io) "I2C serial clock", 22 SDA (io) "I2C serial data", 23 FID/GLCO (io) "(FID) Odd/even field indicator or vertical lock indicator. (GLCO) Serial output carries color PLL information.", 24 VSYNC/PALI (out) "(VSYNC) vertical synchronization. (PALI) PAL line indicator or horizontal lock indicator.", 25 HSYNC (out) "Horizontal synchronization", 26 AVID (io) "Active video indicator", 27 INTREQ/GPCL/VBLK (io) "(INTREQ) interrupt request. (GPCL) General-purpose control logic. (VBLK) Vertical blank output.", 28 PDN (in) "Power-down pin", 29 REFP (power) "A/D reference supply.", 30 REFM (power) "A/D reference ground. Connect to analog ground through 1-µF capacitor.", 31 CH_AGND (power) "Analog ground", 32 CH_AVDD (power) "Analog supply. Connect to 1.8-V analog supply"

## TVP5150PBS
designator U?
Low-Power NTSC/PAL/SECAM 9-Bit Video Decoder with Scaling, 32-Pin TQFP; Published: 6-Oct-2005; LatestRevisionDate: 13-Apr-2006; LatestRevisionNote: IPC-7351 Footprint Added.; DatasheetVersion: Sep-2002; PackageVersion: Nov-1995; PackageReference: PBS32; Publisher: Altium Limited; PackageDescription: 32-Pin Thin Plastic Quad Flat Pack 0.5 mm Pitch; Code_JEDEC: MS-026-AAA; ComponentLink1Description: Manufacturer Link; ComponentLink1URL: http://focus.ti.com/docs/prod/folders/print/tvp5150.html; ComponentLink2Description: Datasheet; ComponentLink2URL: http://focus.ti.com/lit/ds/symlink/tvp5150.pdf
footprint PBS32_N (Thin QFP, 32-Leads, Body 5x5mm, Pitch 0.5mm, IPC Medium Density)
footprint PBS32_L (Thin QFP, 32-Leads, Body 5x5mm, Pitch 0.5mm, IPC High Density)
footprint PBS32_M (Thin QFP, 32-Leads, Body 5x5mm, Pitch 0.5mm, IPC Low Density)
pins: 1 AIP1A (in) "Analog input", 2 AIP1B (in) "Analog input", 3 PLL_AGND (power) "PLL ground. Connect to analog ground", 4 PLL_AVDD (power) "PLL supply. Connect to 1.8-V analog supply", 5 XTAL1/OSC (in) "External clock reference. Connect to a TTL-compatible oscillator or to one terminal of a crystal oscillator", 6 XTAL2 (out) "Connect to other terminal of crystal oscillator or not connect at all.", 7 NSUB "Substrate", 8 SCAN (in) "Scan test input", 9 SCLK/PCLK (out) "(SCLK) System clock outputs with twice the frequency of pixel clock. (PCLK) Pixel clock", 10 IO_DVDD (power) "IO digital supply", 11 YOUT7/I2CSEL (io) "(I2CSEL) Determines address for I2C.(YOUT7) MSB of Output decoded ITU-R BT656 output/YUV 422 output.", 12 YOUT6 (out) "Output decoded ITU-R BT656 output/YUV 422 output.", 13 YOUT5 (out) "Output decoded ITU-R BT656 output/YUV 422 output.", 14 YOUT4 (out) "Output decoded ITU-R BT656 output/YUV 422 output.", 15 YOUT3 (out) "Output decoded ITU-R BT656 output/YUV 422 output.", 16 YOUT2 (out) "Output decoded ITU-R BT656 output/YUV 422 output.", 17 YOUT1 (out) "Output decoded ITU-R BT656 output/YUV 422 output.", 18 YOUT0 (out) "Output decoded ITU-R BT656 output/YUV 422 output.", 19 DGND (power) "Digital ground", 20 DVDD (power) "Digital supply. Connect to 1.8 V", 21 SCL (io) "I2C serial clock", 22 SDA (io) "I2C serial data", 23 FID/GLCO (io) "(FID) Odd/even field indicator or vertical lock indicator. (GLCO) Serial output carries color PLL information.", 24 VSYNC/PALI (out) "(VSYNC) vertical synchronization. (PALI) PAL line indicator or horizontal lock indicator.", 25 HSYNC (out) "Horizontal synchronization", 26 AVID (io) "Active video indicator", 27 INTREQ/GPCL (io) "(INTREQ) interrupt request. (GPCL) General-purpose control logic.", 28 PDN (in) "Power-down pin", 29 REFP (power) "A/D reference supply. Connect to 1.8-V analog", 30 REFM (power) "A/D reference ground. Connect to analog ground", 31 CH1_AGND (power) "Analog ground", 32 CH1_AVDD (power) "Analog supply. Connect to 1.8-V analog supply"

## TVP5150PBSG4
designator U?
Low-Power NTSC/PAL/SECAM 9-Bit Video Decoder with Scaling, 32-Pin TQFP; Published: 6-Oct-2005; LatestRevisionDate: 13-Apr-2006; LatestRevisionNote: IPC-7351 Footprint Added.; DatasheetVersion: Sep-2002; PackageVersion: Nov-1995; PackageReference: PBS32; Publisher: Altium Limited; PackageDescription: 32-Pin Thin Plastic Quad Flat Pack 0.5 mm Pitch; Code_JEDEC: MS-026-AAA; ComponentLink1Description: Manufacturer Link; ComponentLink1URL: http://focus.ti.com/docs/prod/folders/print/tvp5150.html; ComponentLink2Description: Datasheet; ComponentLink2URL: http://focus.ti.com/lit/ds/symlink/tvp5150.pdf
footprint PBS32_N (Thin QFP, 32-Leads, Body 5x5mm, Pitch 0.5mm, IPC Medium Density)
footprint PBS32_L (Thin QFP, 32-Leads, Body 5x5mm, Pitch 0.5mm, IPC High Density)
footprint PBS32_M (Thin QFP, 32-Leads, Body 5x5mm, Pitch 0.5mm, IPC Low Density)
pins: 1 AIP1A (in) "Analog input", 2 AIP1B (in) "Analog input", 3 PLL_AGND (power) "PLL ground. Connect to analog ground", 4 PLL_AVDD (power) "PLL supply. Connect to 1.8-V analog supply", 5 XTAL1/OSC (in) "External clock reference. Connect to a TTL-compatible oscillator or to one terminal of a crystal oscillator", 6 XTAL2 (out) "Connect to other terminal of crystal oscillator or not connect at all.", 7 NSUB "Substrate", 8 SCAN (in) "Scan test input", 9 SCLK/PCLK (out) "(SCLK) System clock outputs with twice the frequency of pixel clock. (PCLK) Pixel clock", 10 IO_DVDD (power) "IO digital supply", 11 YOUT7/I2CSEL (io) "(I2CSEL) Determines address for I2C.(YOUT7) MSB of Output decoded ITU-R BT656 output/YUV 422 output.", 12 YOUT6 (out) "Output decoded ITU-R BT656 output/YUV 422 output.", 13 YOUT5 (out) "Output decoded ITU-R BT656 output/YUV 422 output.", 14 YOUT4 (out) "Output decoded ITU-R BT656 output/YUV 422 output.", 15 YOUT3 (out) "Output decoded ITU-R BT656 output/YUV 422 output.", 16 YOUT2 (out) "Output decoded ITU-R BT656 output/YUV 422 output.", 17 YOUT1 (out) "Output decoded ITU-R BT656 output/YUV 422 output.", 18 YOUT0 (out) "Output decoded ITU-R BT656 output/YUV 422 output.", 19 DGND (power) "Digital ground", 20 DVDD (power) "Digital supply. Connect to 1.8 V", 21 SCL (io) "I2C serial clock", 22 SDA (io) "I2C serial data", 23 FID/GLCO (io) "(FID) Odd/even field indicator or vertical lock indicator. (GLCO) Serial output carries color PLL information.", 24 VSYNC/PALI (out) "(VSYNC) vertical synchronization. (PALI) PAL line indicator or horizontal lock indicator.", 25 HSYNC (out) "Horizontal synchronization", 26 AVID (io) "Active video indicator", 27 INTREQ/GPCL (io) "(INTREQ) interrupt request. (GPCL) General-purpose control logic.", 28 PDN (in) "Power-down pin", 29 REFP (power) "A/D reference supply. Connect to 1.8-V analog", 30 REFM (power) "A/D reference ground. Connect to analog ground", 31 CH1_AGND (power) "Analog ground", 32 CH1_AVDD (power) "Analog supply. Connect to 1.8-V analog supply"

## TVP5150PBSR
designator U?
Low-Power NTSC/PAL/SECAM 9-Bit Video Decoder with Scaling, 32-Pin TQFP; Published: 6-Oct-2005; LatestRevisionDate: 13-Apr-2006; LatestRevisionNote: IPC-7351 Footprint Added.; DatasheetVersion: Sep-2002; PackageVersion: Nov-1995; PackageReference: PBS32; Publisher: Altium Limited; PackageDescription: 32-Pin Thin Plastic Quad Flat Pack 0.5 mm Pitch; Code_JEDEC: MS-026-AAA; ComponentLink1Description: Manufacturer Link; ComponentLink1URL: http://focus.ti.com/docs/prod/folders/print/tvp5150.html; ComponentLink2Description: Datasheet; ComponentLink2URL: http://focus.ti.com/lit/ds/symlink/tvp5150.pdf
footprint PBS32_N (Thin QFP, 32-Leads, Body 5x5mm, Pitch 0.5mm, IPC Medium Density)
footprint PBS32_L (Thin QFP, 32-Leads, Body 5x5mm, Pitch 0.5mm, IPC High Density)
footprint PBS32_M (Thin QFP, 32-Leads, Body 5x5mm, Pitch 0.5mm, IPC Low Density)
pins: 1 AIP1A (in) "Analog input", 2 AIP1B (in) "Analog input", 3 PLL_AGND (power) "PLL ground. Connect to analog ground", 4 PLL_AVDD (power) "PLL supply. Connect to 1.8-V analog supply", 5 XTAL1/OSC (in) "External clock reference. Connect to a TTL-compatible oscillator or to one terminal of a crystal oscillator", 6 XTAL2 (out) "Connect to other terminal of crystal oscillator or not connect at all.", 7 NSUB "Substrate", 8 SCAN (in) "Scan test input", 9 SCLK/PCLK (out) "(SCLK) System clock outputs with twice the frequency of pixel clock. (PCLK) Pixel clock", 10 IO_DVDD (power) "IO digital supply", 11 YOUT7/I2CSEL (io) "(I2CSEL) Determines address for I2C.(YOUT7) MSB of Output decoded ITU-R BT656 output/YUV 422 output.", 12 YOUT6 (out) "Output decoded ITU-R BT656 output/YUV 422 output.", 13 YOUT5 (out) "Output decoded ITU-R BT656 output/YUV 422 output.", 14 YOUT4 (out) "Output decoded ITU-R BT656 output/YUV 422 output.", 15 YOUT3 (out) "Output decoded ITU-R BT656 output/YUV 422 output.", 16 YOUT2 (out) "Output decoded ITU-R BT656 output/YUV 422 output.", 17 YOUT1 (out) "Output decoded ITU-R BT656 output/YUV 422 output.", 18 YOUT0 (out) "Output decoded ITU-R BT656 output/YUV 422 output.", 19 DGND (power) "Digital ground", 20 DVDD (power) "Digital supply. Connect to 1.8 V", 21 SCL (io) "I2C serial clock", 22 SDA (io) "I2C serial data", 23 FID/GLCO (io) "(FID) Odd/even field indicator or vertical lock indicator. (GLCO) Serial output carries color PLL information.", 24 VSYNC/PALI (out) "(VSYNC) vertical synchronization. (PALI) PAL line indicator or horizontal lock indicator.", 25 HSYNC (out) "Horizontal synchronization", 26 AVID (io) "Active video indicator", 27 INTREQ/GPCL (io) "(INTREQ) interrupt request. (GPCL) General-purpose control logic.", 28 PDN (in) "Power-down pin", 29 REFP (power) "A/D reference supply. Connect to 1.8-V analog", 30 REFM (power) "A/D reference ground. Connect to analog ground", 31 CH1_AGND (power) "Analog ground", 32 CH1_AVDD (power) "Analog supply. Connect to 1.8-V analog supply"

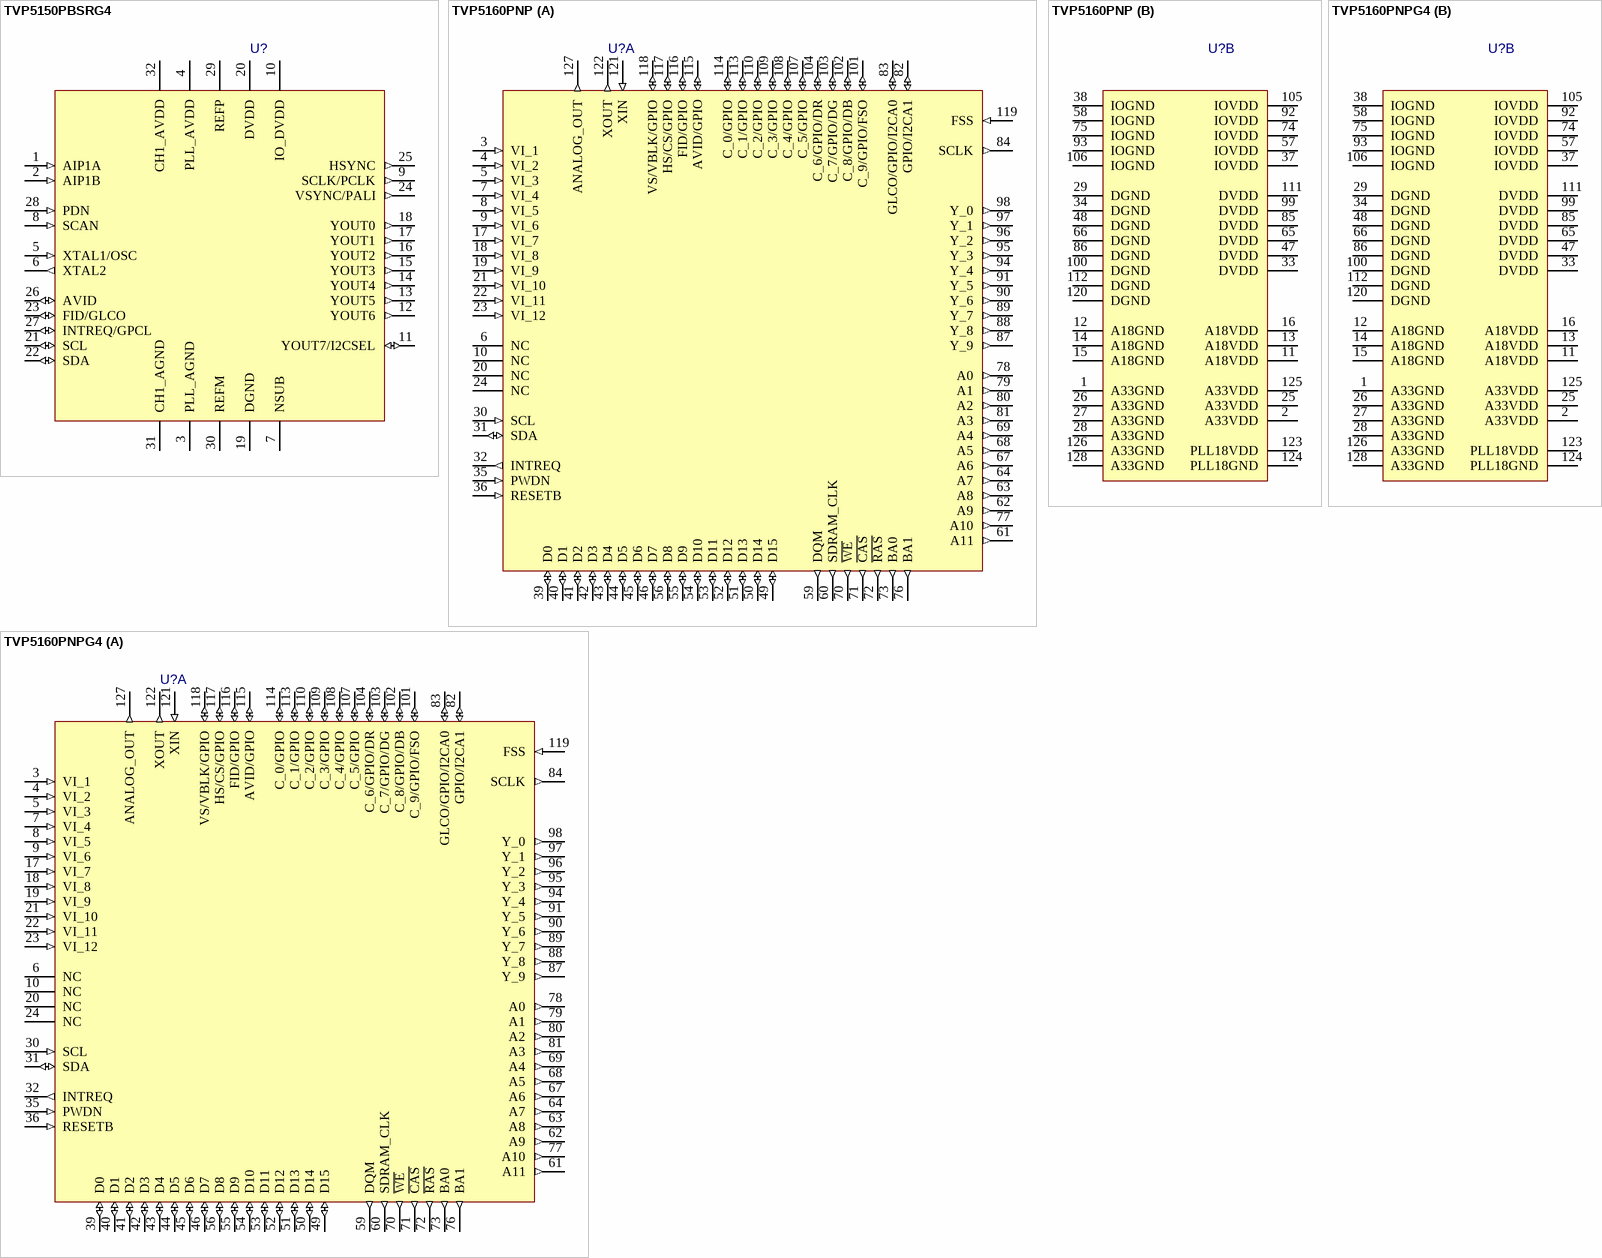
[diagram p3: symbols TVP5150PBSRG4 to TVP5160PNPG4]

## TVP5150PBSRG4
designator U?
Low-Power NTSC/PAL/SECAM 9-Bit Video Decoder with Scaling, 32-Pin TQFP; Published: 6-Oct-2005; LatestRevisionDate: 13-Apr-2006; LatestRevisionNote: IPC-7351 Footprint Added.; DatasheetVersion: Sep-2002; PackageVersion: Nov-1995; PackageReference: PBS32; Publisher: Altium Limited; PackageDescription: 32-Pin Thin Plastic Quad Flat Pack 0.5 mm Pitch; Code_JEDEC: MS-026-AAA; ComponentLink1Description: Manufacturer Link; ComponentLink1URL: http://focus.ti.com/docs/prod/folders/print/tvp5150.html; ComponentLink2Description: Datasheet; ComponentLink2URL: http://focus.ti.com/lit/ds/symlink/tvp5150.pdf
footprint PBS32_N (Thin QFP, 32-Leads, Body 5x5mm, Pitch 0.5mm, IPC Medium Density)
footprint PBS32_L (Thin QFP, 32-Leads, Body 5x5mm, Pitch 0.5mm, IPC High Density)
footprint PBS32_M (Thin QFP, 32-Leads, Body 5x5mm, Pitch 0.5mm, IPC Low Density)
pins: 1 AIP1A (in) "Analog input", 2 AIP1B (in) "Analog input", 3 PLL_AGND (power) "PLL ground. Connect to analog ground", 4 PLL_AVDD (power) "PLL supply. Connect to 1.8-V analog supply", 5 XTAL1/OSC (in) "External clock reference. Connect to a TTL-compatible oscillator or to one terminal of a crystal oscillator", 6 XTAL2 (out) "Connect to other terminal of crystal oscillator or not connect at all.", 7 NSUB "Substrate", 8 SCAN (in) "Scan test input", 9 SCLK/PCLK (out) "(SCLK) System clock outputs with twice the frequency of pixel clock. (PCLK) Pixel clock", 10 IO_DVDD (power) "IO digital supply", 11 YOUT7/I2CSEL (io) "(I2CSEL) Determines address for I2C.(YOUT7) MSB of Output decoded ITU-R BT656 output/YUV 422 output.", 12 YOUT6 (out) "Output decoded ITU-R BT656 output/YUV 422 output.", 13 YOUT5 (out) "Output decoded ITU-R BT656 output/YUV 422 output.", 14 YOUT4 (out) "Output decoded ITU-R BT656 output/YUV 422 output.", 15 YOUT3 (out) "Output decoded ITU-R BT656 output/YUV 422 output.", 16 YOUT2 (out) "Output decoded ITU-R BT656 output/YUV 422 output.", 17 YOUT1 (out) "Output decoded ITU-R BT656 output/YUV 422 output.", 18 YOUT0 (out) "Output decoded ITU-R BT656 output/YUV 422 output.", 19 DGND (power) "Digital ground", 20 DVDD (power) "Digital supply. Connect to 1.8 V", 21 SCL (io) "I2C serial clock", 22 SDA (io) "I2C serial data", 23 FID/GLCO (io) "(FID) Odd/even field indicator or vertical lock indicator. (GLCO) Serial output carries color PLL information.", 24 VSYNC/PALI (out) "(VSYNC) vertical synchronization. (PALI) PAL line indicator or horizontal lock indicator.", 25 HSYNC (out) "Horizontal synchronization", 26 AVID (io) "Active video indicator", 27 INTREQ/GPCL (io) "(INTREQ) interrupt request. (GPCL) General-purpose control logic.", 28 PDN (in) "Power-down pin", 29 REFP (power) "A/D reference supply. Connect to 1.8-V analog", 30 REFM (power) "A/D reference ground. Connect to analog ground", 31 CH1_AGND (power) "Analog ground", 32 CH1_AVDD (power) "Analog supply. Connect to 1.8-V analog supply"

## TVP5160PNP
designator U?
NTSC/PAL/SECAM/Component 2x10-Bit Digital Video Decoder with Macrovision Detection, 3D-YC/5-Line Com, 128-Pin HTQFP; Published: 6-Oct-2005; LatestRevisionDate: 13-Apr-2006; LatestRevisionNote: IPC-7351 Footprint Added.; DatasheetVersion: Feb-2005; PackageVersion: Sep-2004; PackageReference: PNP128; Publisher: Altium Limited; PackageDescription: 128-Pin Plastic Quad Flat Pack PowerPAD 0.4mm Pitch; ComponentLink1Description: Manufacturer Link; ComponentLink1URL: http://focus.ti.com/docs/prod/folders/print/tvp5160.html; ComponentLink2Description: Datasheet; ComponentLink2URL: http://focus.ti.com/lit/ds/symlink/tvp5160.pdf
footprint PNP128_N (Thin QFP, 128-Leads, Body 14x14mm, Pitch 0.4mm, IPC Medium Density)
footprint PNP128_L (Thin QFP, 128-Leads, Body 14x14mm, Pitch 0.4mm, IPC High Density)
footprint PNP128_M (Thin QFP, 128-Leads, Body 14x14mm, Pitch 0.4mm, IPC Low Density)
part A pins: 3 VI_1 (in) "Analog video input", 4 VI_2 (in) "Analog video input", 5 VI_3 (in) "Analog video input", 6 NC "No internal connection.", 7 VI_4 (in) "Analog video input", 8 VI_5 (in) "Analog video input", 9 VI_6 (in) "Analog video input", 10 NC "No internal connection.", 17 VI_7 (in) "Analog video input", 18 VI_8 (in) "Analog video input", 19 VI_9 (in) "Analog video input", 20 NC "No internal connection.", 21 VI_10 (in) "Analog video input", 22 VI_11 (in) "Analog video input", 23 VI_12 (in) "Analog video input", 24 NC "No internal connection.", 30 SCL (in) "I2C clock input", 31 SDA (io) "I2C data bus", 32 INTREQ (out) "Interrupt request output", 35 PWDN (in) "Power down input.", 36 RESETB (in) "Reset input, active low.", 39 D0 (io) "SDRAM data bus.", 40 D1 (io) "SDRAM data bus.", 41 D2 (io) "SDRAM data bus.", 42 D3 (io) "SDRAM data bus.", 43 D4 (io) "SDRAM data bus.", 44 D5 (io) "SDRAM data bus.", 45 D6 (io) "SDRAM data bus.", 46 D7 (io) "SDRAM data bus.", 49 D15 (io) "SDRAM data bus.", 50 D14 (io) "SDRAM data bus.", 51 D13 (io) "SDRAM data bus.", 52 D12 (io) "SDRAM data bus.", 53 D11 (io) "SDRAM data bus.", 54 D10 (io) "SDRAM data bus.", 55 D9 (io) "SDRAM data bus.", 56 D8 (io) "SDRAM data bus.", 59 DQM (out) "SDRAM input/output mask for data.", 60 SDRAM_CLK (out) "SDRAM 108-MHz clock.", 61 A11 (out) "SDRAM address bus.", 62 A9 (out) "SDRAM address bus.", 63 A8 (out) "SDRAM address bus.", 64 A7 (out) "SDRAM address bus.", 67 A6 (out) "SDRAM address bus.", 68 A5 (out) "SDRAM address bus.", 69 A4 (out) "SDRAM address bus.", 70 ~{WE} (out) "SDRAM write enable.", 71 ~{CAS} (out) "SDRAM CAS enable.", 72 ~{RAS} (out) "SDRAM RAS enable.", 73 BA0 (out) "SDRAM bank address.", 76 BA1 (out) "SDRAM bank address.", 77 A10 (out) "SDRAM address bus.", 78 A0 (out) "SDRAM address bus.", 79 A1 (out) "SDRAM address bus.", 80 A2 (out) "SDRAM address bus.", 81 A3 (out) "SDRAM address bus.", 82 GPIO/I2CA1 (io) "General-purpose I/O (GPIO). During reset, used to program I2C address (I2CA1).", 83 GLCO/GPIO/I2CA0 (io) "Genlock control output (GLCO). General-purpose I/O (GPIO). During reset, used to program I2C address (I2CA0).", 84 SCLK (out) "Line-locked data output clock", 87 Y_9 (out) "Digital video output of Y/YCbCr (MSB).", 88 Y_8 (out) "Digital video output of Y/YCbCr.", 89 Y_7 (out) "Digital video output of Y/YCbCr.", 90 Y_6 (out) "Digital video output of Y/YCbCr.", 91 Y_5 (out) "Digital video output of Y/YCbCr.", 94 Y_4 (out) "Digital video output of Y/YCbCr.", 95 Y_3 (out) "Digital video output of Y/YCbCr.", 96 Y_2 (out) "Digital video output of Y/YCbCr.", 97 Y_1 (out) "Digital video output of Y/YCbCr.", 98 Y_0 (out) "Digital video output of Y/YCbCr (LSB).", 101 C_9/GPIO/FSO (io) "Digital video output of CbCr (MSB). (FSO) Fast-switch overlay between digital RGB and any video input.", 102 C_8/GPIO/DB (io) "Digital video output of CbCr. (DB) Digital BLUE input from overlay device.", 103 C_7/GPIO/DG (io) "Digital video output of CbCr. (DG) Digital GREEN input from overlay device.", 104 C_6/GPIO/DR (io) "Digital video output of CbCr. (DR) Digital RED input from overlay device.", 107 C_5/GPIO (io) "Digital video output of CbCr.", 108 C_4/GPIO (io) "Digital video output of CbCr.", 109 C_3/GPIO (io) "Digital video output of CbCr.", 110 C_2/GPIO (io) "Digital video output of CbCr.", 113 C_1/GPIO (io) "Digital video output of CbCr.", 114 C_0/GPIO (io) "Digital video output of CbCr (LSB).", 115 AVID/GPIO (io) "Active video indicator. Programmable general purpose I/O.", 116 FID/GPIO (io) "Odd/even field indicator. Programmable general purpose I/O.", 117 HS/CS/GPIO (io) "Horizontal sync output or digital composite sync output. Programmable general purpose I/O", 118 VS/VBLK/GPIO (io) "Vertical sync output. (for modes with dedicated VS) or vertical blanking output. Programmable general purpose I/O.", 119 FSS (in) "SCART fast switch input", 121 XIN (in) "External clock reference input.", 122 XOUT (out) "External clock reference output.", 127 ANALOG_OUT (out) "Unbuffered analog video output"
part B pins: 1 A33GND (power) "Analog 3.3-V return.", 2 A33VDD (power) "Analog power. Connect to analog 3.3-V supply.", 11 A18VDD (power) "Analog power. Connect to analog 1.8-V supply", 12 A18GND (power) "Analog 1.8-V return.", 13 A18VDD (power) "Analog power. Connect to analog 1.8-V supply", 14 A18GND (power) "Analog 1.8-V return.", 15 A18GND (power) "Analog 1.8-V return.", 16 A18VDD (power) "Analog power. Connect to analog 1.8-V supply", 25 A33VDD (power) "Analog power. Connect to analog 3.3-V supply.", 26 A33GND (power) "Analog 3.3-V return.", 27 A33GND (power) "Analog 3.3-V return.", 28 A33GND (power) "Analog 3.3-V return.", 29 DGND (power) "Digital return. Connect to digital ground", 33 DVDD (power) "Digital core power. Connect to 1.8-V supply", 34 DGND (power) "Digital return. Connect to digital ground", 37 IOVDD (power) "Digital I/O power. Connect to digital 3.3-V supply", 38 IOGND (power) "Digital power return. Connect to digital ground", 47 DVDD (power) "Digital core power. Connect to 1.8-V supply", 48 DGND (power) "Digital return. Connect to digital ground", 57 IOVDD (power) "Digital I/O power. Connect to digital 3.3-V supply", 58 IOGND (power) "Digital power return. Connect to digital ground", 65 DVDD (power) "Digital core power. Connect to 1.8-V supply", 66 DGND (power) "Digital return. Connect to digital ground", 74 IOVDD (power) "Digital I/O power. Connect to digital 3.3-V supply", 75 IOGND (power) "Digital power return. Connect to digital ground", 85 DVDD (power) "Digital core power. Connect to 1.8-V supply", 86 DGND (power) "Digital return. Connect to digital ground", 92 IOVDD (power) "Digital I/O power. Connect to digital 3.3-V supply", 93 IOGND (power) "Digital power return. Connect to digital ground", 99 DVDD (power) "Digital core power. Connect to 1.8-V supply", 100 DGND (power) "Digital return. Connect to digital ground", 105 IOVDD (power) "Digital I/O power. Connect to digital 3.3-V supply", 106 IOGND (power) "Digital power return. Connect to digital ground", 111 DVDD (power) "Digital core power. Connect to 1.8-V supply", 112 DGND (power) "Digital return. Connect to digital ground", 120 DGND (power) "Digital return. Connect to digital ground", 123 PLL18VDD (power) "Analog power. Connect to analog 1.8-V supply", 124 PLL18GND (power) "Analog power return. Connect to analog ground", 125 A33VDD (power) "Analog power. Connect to analog 3.3-V supply.", 126 A33GND (power) "Analog 3.3-V return.", 128 A33GND (power) "Analog 3.3-V return."